# EAGLE library part ADUM3442CRWZ (library digital-isolator)
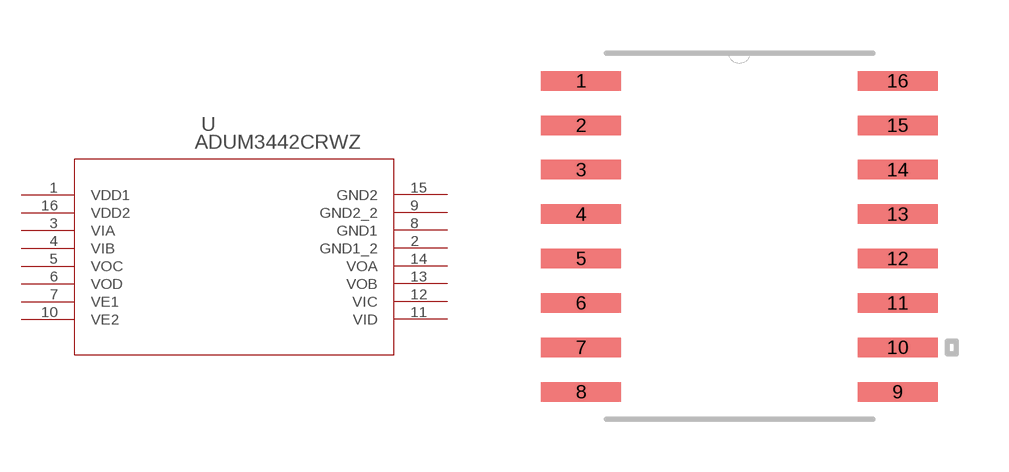
[diagram p0: symbol with the pads of RW_16; footprint RW_16]

Designator prefix U

## ADUM3442CRWZ  [RW_16]
1  VDD1  pwr
2  GND1_2  pas
3  VIA  in
4  VIB  in
5  VOC  out
6  VOD  out
7  VE1  out
8  GND1  pas
9  GND2_2  pas
10  VE2  out
11  VID  in
12  VIC  in
13  VOB  out
14  VOA  out
15  GND2  pas
16  VDD2  pwr

## Footprint RW_16 (pad centres in mm)
smd 2.286 x 0.559: 1 -4.528,4.445; 2 -4.528,3.175; 3 -4.528,1.905; 4 -4.528,0.635; 5 -4.528,-0.635; 6 -4.528,-1.905; 7 -4.528,-3.175; 8 -4.528,-4.445; 9 4.528,-4.445; 10 4.528,-3.175; 11 4.528,-1.905; 12 4.528,-0.635; 13 4.528,0.635; 14 4.528,1.905; 15 4.528,3.175; 16 4.528,4.445